# EAGLE library part 74HC244 (library Bustreiber - 74HC244)
Name des Bauteiles: -->74HC244 Daten: Octal bus interface, Non-inverting 3-state outputs, Complies with JEDEC standard no. 7A, ESD protection: HBM EIA/JESD22-A114-C exceeds 2000 V, MM EIA/JESD22-A115-A exceeds 200 V, Multiple package options, Specified from -40 °C to +85 °C and from -40 °C to +125 °C Artikelnummer:#045208 Datenblatt:Siehe Hesch Suche ! __________________________________________ generated by Eagle Description Tool am : 22.05.2014 07:34:16 erstellt von: hm
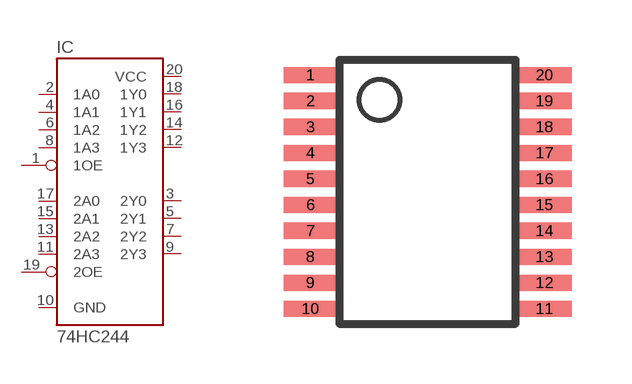
[diagram p0: symbol with the pads of TSSOP20; footprint TSSOP20]

Designator prefix IC

## 74HC244PW (TEST: 000000)  [TSSOP20]
1  1OE
2  1A0
3  2Y0
4  1A1
5  2Y1
6  1A2
7  2Y2
8  1A3
9  2Y3
10  GND
11  2A3
12  1Y3
13  2A2
14  1Y2
15  2A1
16  1Y1
17  2A0
18  1Y0
19  2OE
20  VCC

## Footprint TSSOP20 (pad centres in mm)
smd 1.35 x 0.4: 1 -2.925,2.925; 2 -2.925,2.275; 3 -2.925,1.625; 4 -2.925,0.975; 5 -2.925,0.325; 6 -2.925,-0.325; 7 -2.925,-0.975; 8 -2.925,-1.625; 9 -2.925,-2.275; 10 -2.925,-2.925; 11 2.925,-2.925; 12 2.925,-2.275; 13 2.925,-1.625; 14 2.925,-0.975; 15 2.925,-0.325; 16 2.925,0.325; 17 2.925,0.975; 18 2.925,1.625; 19 2.925,2.275; 20 2.925,2.925